# Altium footprint library SCREW_2PIN.PcbLib: 1 footprints
Each footprint in its own frame and in the unit in brackets; x right, y up, seen from the top. Pads: shape width x height; smd on the part's side, far side on the other; paste and mask are expansions set on the pad; w line width, h text height; cw(c..) or ccw(c..) is an arc to the next point about the centre after c.
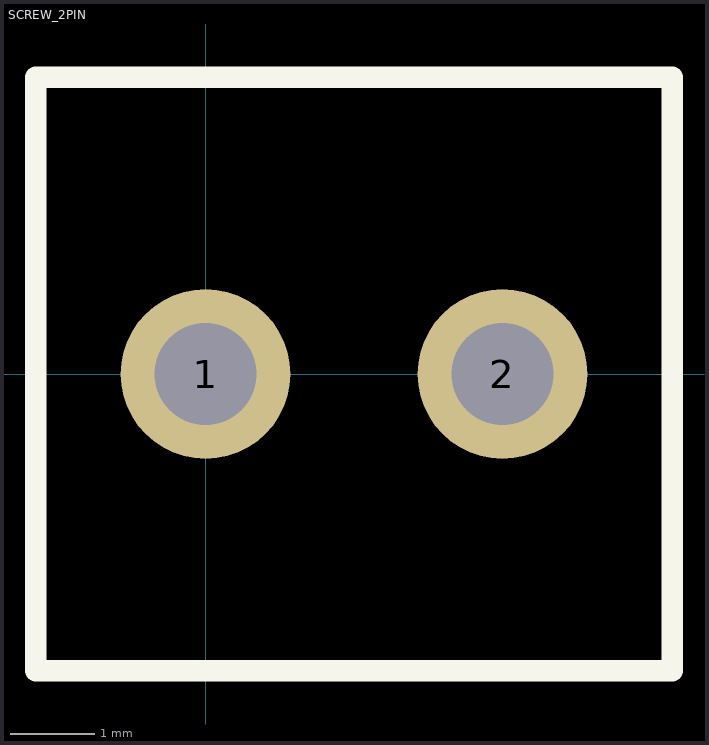
[diagram p0: the footprint, top view; thin cyan lines are the x and y axes]

## SCREW_2PIN [mm]
pads (2):
  round 2 hole 1.2: 1(0,0) 2(3.5,0)
Top Overlay:
  lines w0.254: -2,-3.5 5.5,-3.5 5.5,3.5 -2,3.5 -2,-3.5
3D body "screwterminal_3_5mm_2.SLDPRT": height 8.4, standoff -3.8, extent -1.7,-3.4 5.3,3.6